# EAGLE library part XR-16C450J (library exar)
UART
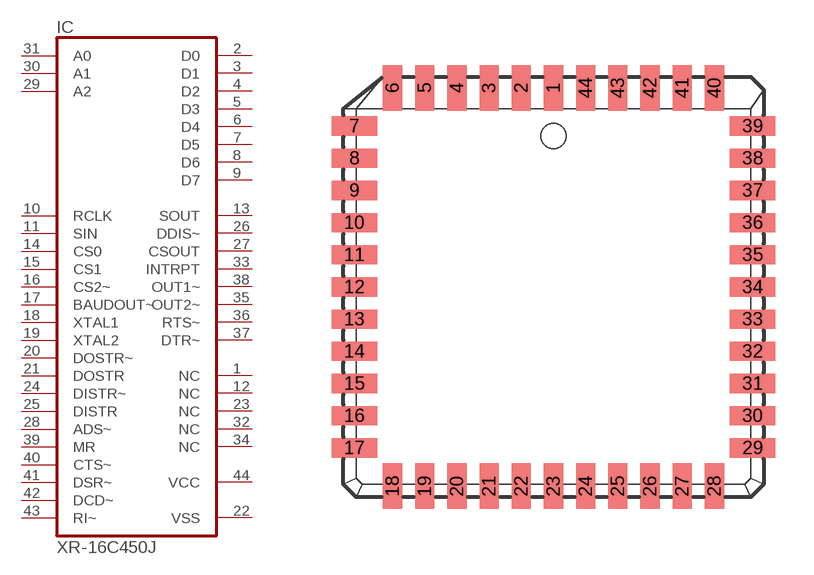
[diagram p31: symbol with the pads of PLCC44; footprint PLCC44]

Designator prefix IC

## XR-16C450J (MF: TEXAS INSTRUMENTS; MPN: TL16C450FNR; OC_FARNELL: unknown; OC_NEWARK: 76C9161)  [PLCC44]
1  NC  nc
2  D0
3  D1
4  D2
5  D3
6  D4
7  D5
8  D6
9  D7
10  RCLK  in
11  SIN  in
12  NC  nc
13  SOUT  out
14  CS0  in
15  CS1  in
16  CS2~  in
17  BAUDOUT~  in
18  XTAL1  in
19  XTAL2  in
20  DOSTR~  in
21  DOSTR  in
22  VSS  pwr
23  NC  nc
24  DISTR~  in
25  DISTR  in
26  DDIS~  out
27  CSOUT  out
28  ADS~  in
29  A2  in
30  A1  in
31  A0  in
32  NC  nc
33  INTRPT  out
34  NC  nc
35  OUT2~  out
36  RTS~  out
37  DTR~  out
38  OUT1~  out
39  MR  in
40  CTS~  in
41  DSR~  in
42  DCD~  in
43  RI~  in
44  VCC  pwr

## Footprint PLCC44 (pad centres in mm)
Plastic Leaded Chip Carrier
smd 0.76 x 1.8: 1 0,7.86; 2 -1.27,7.86; 3 -2.54,7.86; 4 -3.81,7.86; 5 -5.08,7.86; 6 -6.35,7.86; 18 -6.35,-7.86; 19 -5.08,-7.86; 20 -3.81,-7.86; 21 -2.54,-7.86; 22 -1.27,-7.86; 23 0,-7.86; 24 1.27,-7.86; 25 2.54,-7.86; 26 3.81,-7.86; 27 5.08,-7.86; 28 6.35,-7.86; 40 6.35,7.86; 41 5.08,7.86; 42 3.81,7.86; 43 2.54,7.86; 44 1.27,7.86
smd 1.8 x 0.76: 7 -7.86,6.35; 8 -7.86,5.08; 9 -7.86,3.81; 10 -7.86,2.54; 11 -7.86,1.27; 12 -7.86,0; 13 -7.86,-1.27; 14 -7.86,-2.54; 15 -7.86,-3.81; 16 -7.86,-5.08; 17 -7.86,-6.35; 29 7.86,-6.35; 30 7.86,-5.08; 31 7.86,-3.81; 32 7.86,-2.54; 33 7.86,-1.27; 34 7.86,0; 35 7.86,1.27; 36 7.86,2.54; 37 7.86,3.81; 38 7.86,5.08; 39 7.86,6.35